# Altium schematic symbol library SCH - SENSOR - MOTION - ST LIS2DW12.SCHLIB: 1 symbol
Pins are listed as number, name and electrical type; pins without a type are passive.

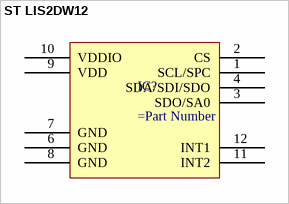
[diagram p0: symbol ST LIS2DW12]

## ST LIS2DW12
designator IC?
pins: 1 SCL/SPC, 2 CS, 3 SDO/SA0, 4 SDA/SDI/SDO, 6 GND, 7 GND, 8 GND, 9 VDD, 10 VDDIO, 11 INT2, 12 INT1